# Altium footprint library ZL-YDW17045-4005PA-10.PcbLib: 1 footprints
Each footprint in its own frame and in the unit in brackets; x right, y up, seen from the top. Pads: shape width x height; smd on the part's side, far side on the other; paste and mask are expansions set on the pad; w line width, h text height; cw(c..) or ccw(c..) is an arc to the next point about the centre after c.
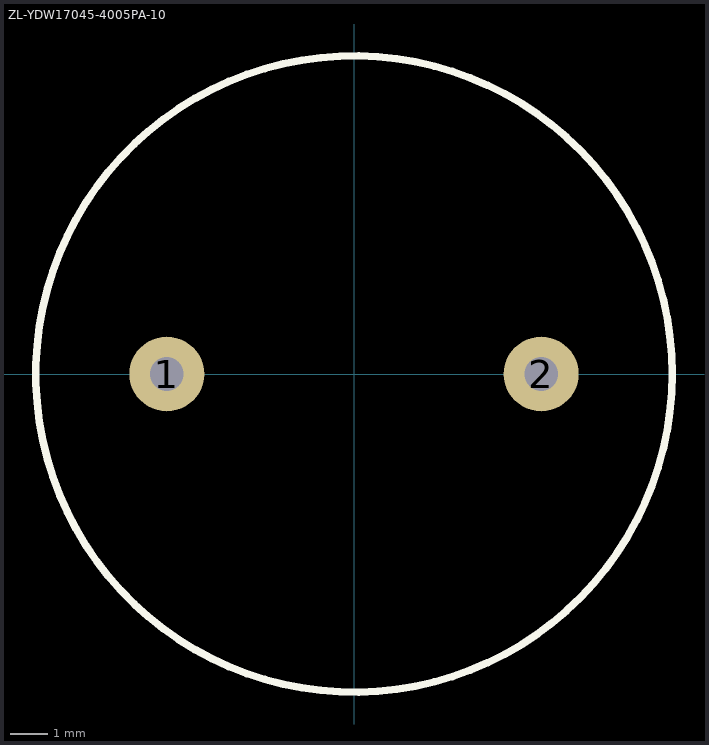
[diagram p0: the footprint, top view; thin cyan lines are the x and y axes]

## ZL-YDW17045-4005PA-10 [mm]
pads (2):
  round 2 hole 0.9: 1(-5,0) 2(5,0)
Top Overlay:
  circle w0.2: c0,0 r8.5
Top Assembly:
  circle w0.1: c0,0 r8.5
  text "'.Designator'" at -0.8,-0.3 h0.7
3D body: height 2.3, standoff -0.4, extent 0,0 0,0
3D body: height 5, standoff 0, extent -8.5,-8.497 8.5,8.497